# EAGLE library part LIS3DH (library inklinometer)
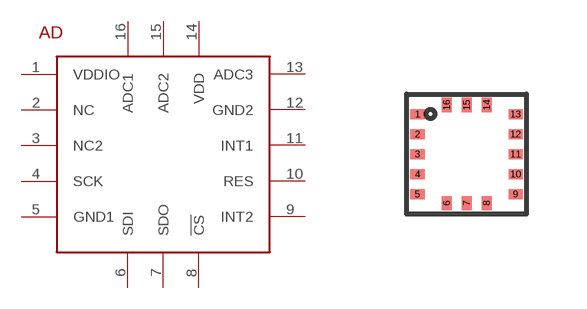
[diagram p4: symbol with the pads of LGA16_LIS; footprint LGA16_LIS]

Designator prefix AD

## LIS3DH  [LGA16_LIS]
1  VDDIO
2  NC
3  NC2
4  SCK
5  GND1  pwr
6  SDI
7  SDO
8  !CS
9  INT2
10  RES
11  INT1
12  GND2  pas
13  ADC3
14  VDD  pwr
15  ADC2
16  ADC1

## Footprint LGA16_LIS (pad centres in mm)
smd 0.35 x 0.25: 1 -1.225,1; 2 -1.225,0.5; 3 -1.225,0; 4 -1.225,-0.5; 5 -1.225,-1; 9 1.225,-1; 10 1.225,-0.5; 11 1.225,0; 12 1.225,0.5; 13 1.225,1
smd 0.25 x 0.35: 6 -0.5,-1.225; 7 0,-1.225; 8 0.5,-1.225; 14 0.5,1.225; 15 0,1.225; 16 -0.5,1.225